# Altium footprint library Cap_Murata_GRM21BR71C105KA01L_eec_IPC_C.PcbLib: 1 footprints
Each footprint in its own frame and in the unit in brackets; x right, y up, seen from the top. Pads: shape width x height; smd on the part's side, far side on the other; paste and mask are expansions set on the pad; w line width, h text height; cw(c..) or ccw(c..) is an arc to the next point about the centre after c.
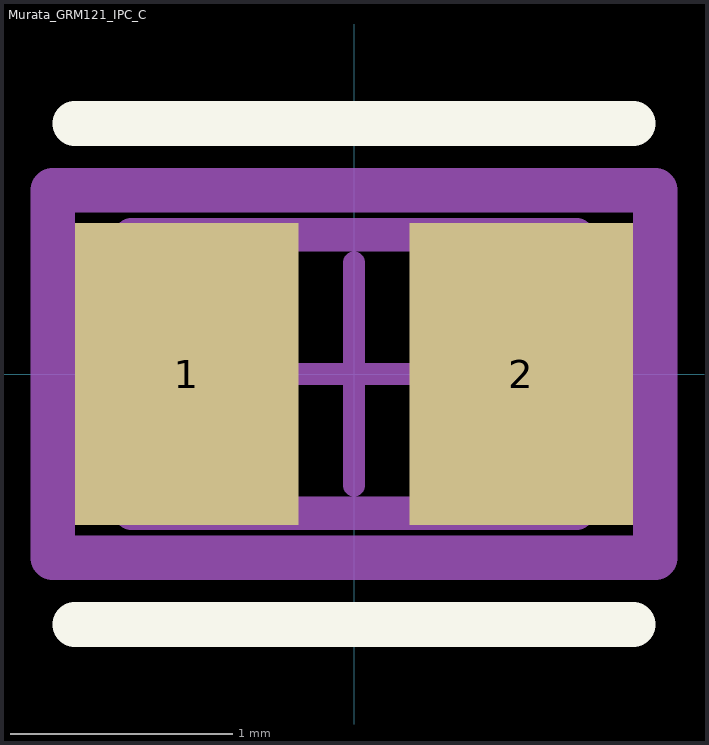
[diagram p0: the footprint, top view; thin cyan lines are the x and y axes]

## Murata_GRM121_IPC_C [mm]
pads (2):
  rect 1.005x1.356 smd paste+0 mask+0: 1(-0.751,0) 2(0.751,0)
Top Overlay:
  lines w0.2: -1.253,-1.125 1.253,-1.125 ; -1.253,1.125 1.253,1.125
Mechanical 10:
  lines w0.2: -1.353,-0.825 1.353,-0.825 1.353,0.825 -1.353,0.825 -1.353,-0.825
  text ".Designator" at 0,0 h1
Mechanical 12:
  lines w0.15: -1,-0.625 1,-0.625 1,0.625 -1,0.625 -1,-0.625
Mechanical 15:
  lines w0.1: -0.5,0 0.5,0 ; 0,-0.5 0,0.5
  lines w0.2: -1.353,-0.825 1.353,-0.825 1.353,0.825 -1.353,0.825 -1.353,-0.825